# Altium footprint library Supernova Diodes.PcbLib: 50 footprints (part 1 of 4)
Each footprint in its own frame and in the unit in brackets; x right, y up, seen from the top. Pads: shape width x height; smd on the part's side, far side on the other; paste and mask are expansions set on the pad; w line width, h text height; cw(c..) or ccw(c..) is an arc to the next point about the centre after c.
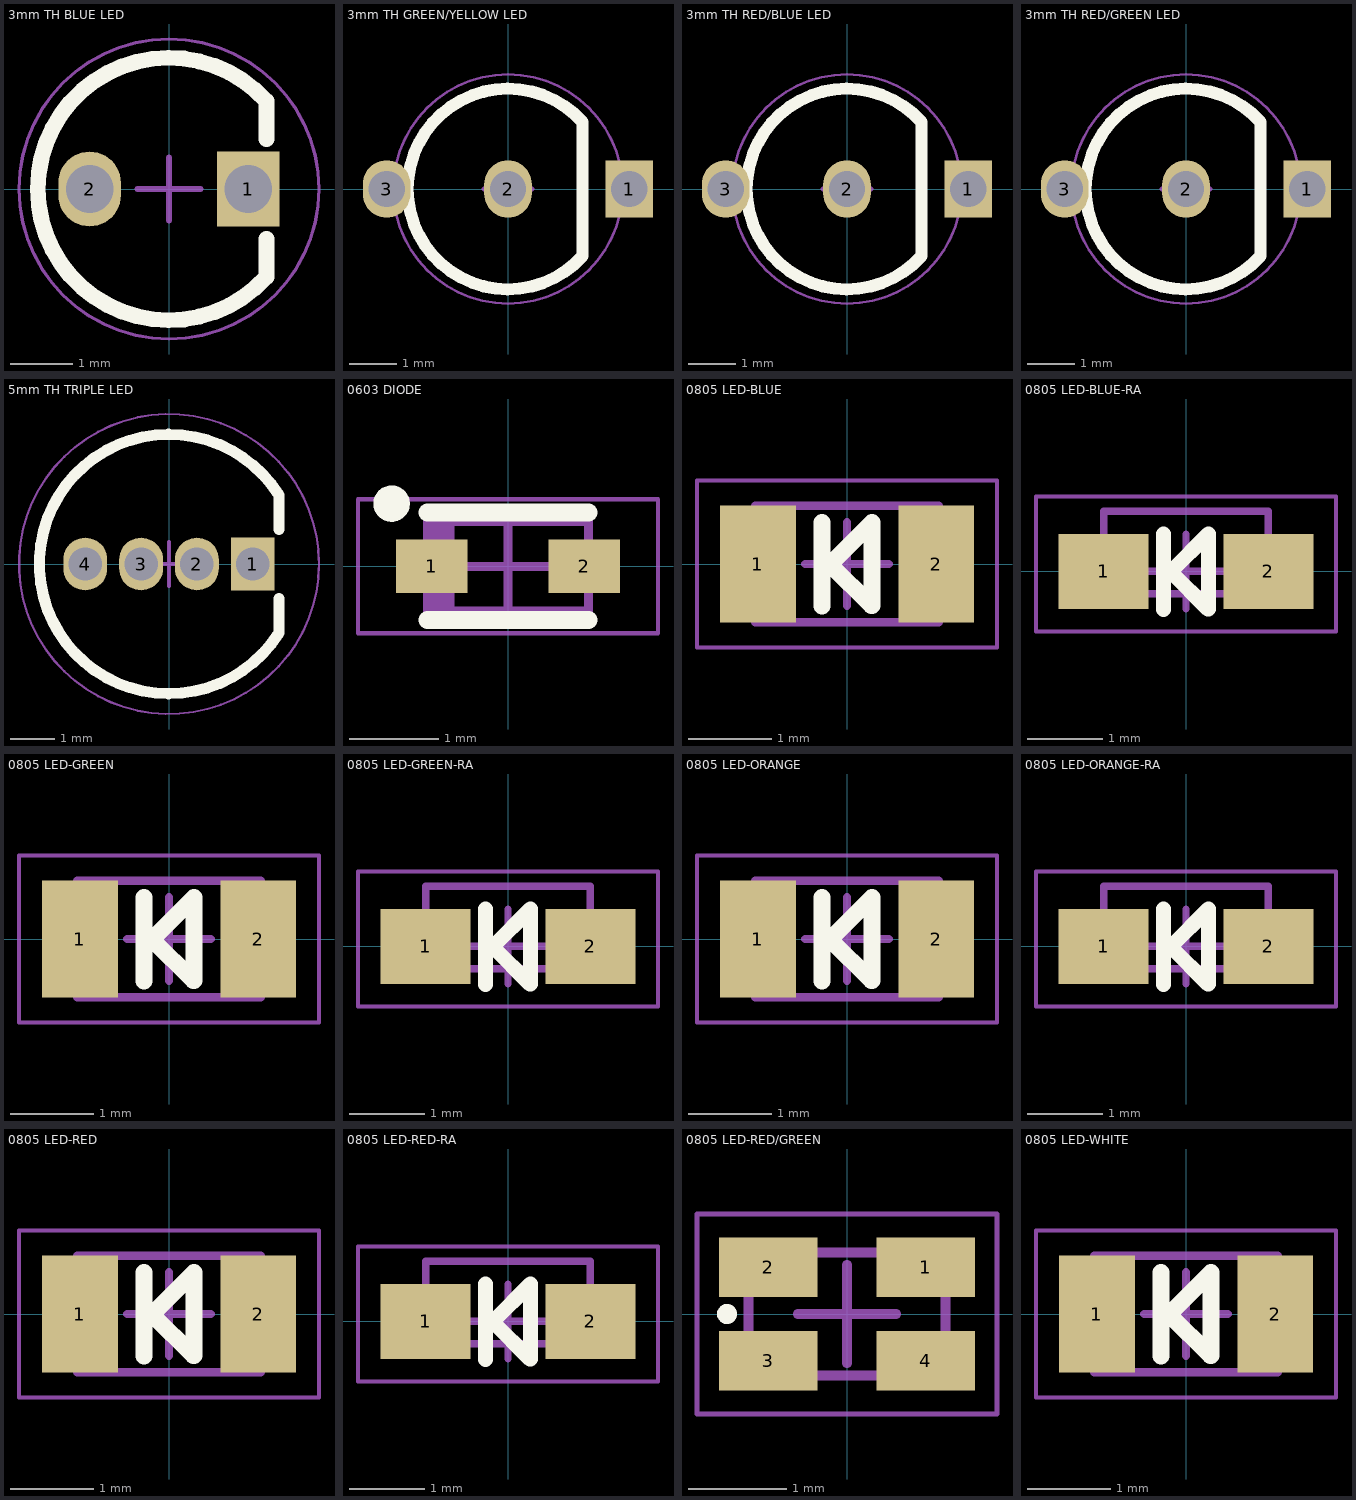
[diagram p0: the footprints below, top view; thin cyan lines are the x and y axes]

## 3mm TH BLUE LED [mm]
pads (2):
  rect 1x1.2 hole 0.762 mask+0.02: 1(1.27,0)
  oval 1x1.2 hole 0.762 mask+0.02: 2(-1.27,0)
Top Overlay:
  lines w0.254: 1.561,-0.8 1.561,-1.405 cw(c0,0) 1.561,1.405 1.561,0.8
Top Courtyard (Mech15):
  circle w0.05: c0,0 r2.4
  lines w0.1: -0.5,0 0.5,0 ; 0,-0.5 0,0.5
3D body: height 3.9, standoff 3.1, extent -0.4,-0.397 0.399,0.397
3D body: height 3, standoff 2, extent -2,-2.006 1.486,2.006
3D body: height 7, standoff 4, extent -1.494,-1.497 1.495,1.497
3D body: height 5.5, standoff 3, extent -1.494,-1.497 1.494,1.497
3D body: height 2, standoff -2.2, extent -1.52,-0.25 -1.02,0.25
3D body: height 2, standoff -2.2, extent 1.02,-0.25 1.52,0.25

## 3mm TH GREEN/YELLOW LED [mm]
pads (3):
  rect 1x1.2 hole 0.762 mask+0.02: 1(2.54,0)
  oval 1x1.2 hole 0.762 mask+0.02: 2(0,0) 3(-2.54,0)
Top Overlay:
  lines w0.254: 1.561,-1.405 cw(c0,0) 1.561,1.405 1.561,-1.405
Top Courtyard (Mech15):
  circle w0.05: c0,0 r2.4
  lines w0.1: -0.5,0 0.5,0 ; 0,-0.5 0,0.5
3D body: height 3, standoff 2, extent -2,-2.006 1.486,2.006
3D body: height 7, standoff 4, extent -1.494,-1.497 1.495,1.497
3D body: height 5.5, standoff 3, extent -1.494,-1.497 1.494,1.497
3D body: height 0.5, standoff -2.2, extent -2.79,-0.25 -2.29,0.25
3D body: height 2, standoff -2.2, extent -0.25,-0.25 0.25,0.25
3D body: height 0.5, standoff -2.2, extent 2.29,-0.25 2.79,0.25
3D body: height 3.9, standoff 3.1, extent -0.849,-0.397 -0.05,0.397
3D body: height 3.9, standoff 3.1, extent 0.05,-0.397 0.849,0.397

## 3mm TH RED/BLUE LED [mm]
pads (3):
  rect 1x1.2 hole 0.762 mask+0.02: 1(2.54,0)
  oval 1x1.2 hole 0.762 mask+0.02: 2(0,0) 3(-2.54,0)
Top Overlay:
  lines w0.254: 1.561,-1.405 cw(c0,0) 1.561,1.405 1.561,-1.405
Top Courtyard (Mech15):
  circle w0.05: c0,0 r2.4
  lines w0.1: -0.5,0 0.5,0 ; 0,-0.5 0,0.5
3D body: height 3.9, standoff 3.1, extent 0.051,-0.397 0.85,0.397
3D body: height 3.9, standoff 3.1, extent -0.85,-0.394 -0.051,0.4
3D body: height 3, standoff 2, extent -2,-2.006 1.486,2.006
3D body: height 7, standoff 4, extent -1.494,-1.497 1.495,1.497
3D body: height 5.5, standoff 3, extent -1.494,-1.497 1.494,1.497
3D body: height 0.5, standoff -2.2, extent -2.79,-0.25 -2.29,0.25
3D body: height 2, standoff -2.2, extent -0.25,-0.25 0.25,0.25
3D body: height 0.5, standoff -2.2, extent 2.29,-0.25 2.79,0.25

## 3mm TH RED/GREEN LED [mm]
pads (3):
  rect 1x1.2 hole 0.762 mask+0.02: 1(2.54,0)
  oval 1x1.2 hole 0.762 mask+0.02: 2(0,0) 3(-2.54,0)
Top Overlay:
  lines w0.254: 1.561,-1.405 cw(c0,0) 1.561,1.405 1.561,-1.405
Top Courtyard (Mech15):
  circle w0.05: c0,0 r2.4
  lines w0.1: -0.5,0 0.5,0 ; 0,-0.5 0,0.5
3D body: height 3.9, standoff 3.1, extent 0.05,-0.397 0.849,0.397
3D body: height 3.9, standoff 3.1, extent -0.849,-0.397 -0.05,0.397
3D body: height 0.5, standoff -2.2, extent 2.29,-0.25 2.79,0.25
3D body: height 2, standoff -2.2, extent -0.25,-0.25 0.25,0.25
3D body: height 0.5, standoff -2.2, extent -2.79,-0.25 -2.29,0.25
3D body: height 5.5, standoff 3, extent -1.494,-1.497 1.494,1.497
3D body: height 7, standoff 4, extent -1.494,-1.497 1.495,1.497
3D body: height 3, standoff 2, extent -2,-2.006 1.486,2.006

## 5mm TH TRIPLE LED [mm]
pads (4):
  rect 1x1.2 hole 0.762 mask+0.02: 1(1.905,0)
  oval 1x1.2 hole 0.762 mask+0.02: 2(0.635,0) 3(-0.635,0) 4(-1.905,0)
Top Overlay:
  lines w0.254: 2.496,-1.572 cw(c0,0) 2.496,1.572 2.5,1.572 2.5,0.786 ; 2.5,-1.572 2.5,-0.786
Top Courtyard (Mech15):
  circle w0.05: c0,0 r3.412
  lines w0.1: -0.5,0 0.5,0 ; 0,-0.5 0,0.5
3D body: height 4.1, standoff 2.9, extent 0.156,-0.597 1.35,0.597
3D body "5mm LED.STEP": height 10.4, standoff 1.8, extent -2.95,-2.95 2.5,2.95
3D body: height 2.79, standoff -4.11, extent -2.155,-0.25 -1.655,0.25
3D body: height 2.79, standoff -4.11, extent -0.885,-0.25 -0.385,0.25
3D body: height 2.79, standoff -4.11, extent 0.385,-0.25 0.885,0.25
3D body: height 2.79, standoff -4.11, extent 1.655,-0.25 2.155,0.25
3D body: height 4.1, standoff 2.9, extent -1.045,0.006 0.149,1.2
3D body: height 4.1, standoff 2.9, extent -1.049,-1.201 0.145,-0.006

## 0603 DIODE [mm] "Molded Diode, 2-Leads, Body 1.70x0.90mm, IPC Medium Density"
height 0.85
pads (2):
  rect 0.8x0.6 smd: 1(-0.85,0) 2(0.85,0)
Top Overlay:
  circle w0.203: c-1.3,0.7 r0.102
  lines w0.2: -0.9,-0.6 0.9,-0.6 ; -0.9,0.6 0.9,0.6
Top 3D Body (Mech13):
  rectangle: -0.9,-0.5 -0.6,0.5
  lines w0.1: -0.9,-0.5 0.9,-0.5 0.9,0.5 -0.9,0.5 -0.9,-0.5
Top Courtyard (Mech15):
  lines w0.05: -1.675,-0.75 1.675,-0.75 1.675,0.75 -1.675,0.75 -1.675,-0.75
  lines w0.1: -0.5,0 0.5,0 ; 0,-0.5 0,0.5
3D body: height 0.75, standoff 0, extent -0.9,-0.5 -0.6,0.5
3D body: height 0.85, standoff 0.75, extent -0.9,-0.5 -0.6,0.5
3D body: height 0.85, standoff 0, extent -0.6,-0.5 0.9,0.5

## 0805 LED-BLUE [mm] "Chip LED, 2-Leads, Body 2.05x1.25mm, IPC Medium Density"
height 0.8
pads (2):
  rect 0.91x1.41 smd: 1(-1.07,0) 2(1.07,0)
Top Overlay:
  lines w0.2: -0.3,-0.508 -0.3,0.5 ; 0.292,-0.5 -0.204,-0.004 0.3,0.5 0.3,-0.5
Top 3D Body (Mech13):
  lines w0.1: -1.1,-0.7 1.1,-0.7 1.1,0.7 -1.1,0.7 -1.1,-0.7
Top Courtyard (Mech15):
  lines w0.05: -1.8,-1 1.8,-1 1.8,1 -1.8,1 -1.8,-1
  lines w0.1: -0.5,0 0.5,0 ; 0,-0.5 0,0.5
3D body: height 0.8, standoff 0, extent -0.396,-0.398 0.4,0.398
3D body: height 0.3, standoff 0, extent 0.75,-0.7 1.1,0.7
3D body: height 0.3, standoff 0, extent -1.1,-0.7 -0.75,0.7
3D body: height 0.8, standoff 0.3, extent -0.75,-0.7 0.75,0.7
3D body: height 0.3, standoff 0, extent -0.75,-0.7 0.75,0.7

## 0805 LED-BLUE-RA [mm] "Chip LED, 2-Leads, Body 2.05x1.25mm, IPC Medium Density"
height 0.8
pads (2):
  rect 1.2x1 smd: 1(-1.1,0) 2(1.1,0)
Top Overlay:
  lines w0.2: -0.3,-0.508 -0.3,0.5 ; 0.292,-0.5 -0.204,-0.004 0.3,0.5 0.3,-0.5
Top 3D Body (Mech13):
  lines w0.1: -1.1,-0.3 1.1,-0.3 1.1,0.8 -1.1,0.8 -1.1,-0.3
Top Courtyard (Mech15):
  lines w0.05: -2,-0.8 2,-0.8 2,1 -2,1 -2,-0.8
  lines w0.1: -0.5,0 0.5,0 ; 0,-0.5 0,0.5
3D body: height 0.6, standoff 0, extent 0.75,-0.25 1.1,0.25
3D body: height 0.6, standoff 0, extent -1.1,-0.25 -0.75,0.25
3D body: height 0.6, standoff 0, extent -0.75,-0.25 0.75,0.25
3D body: height 0.55, standoff 0.05, extent -0.25,0.004 0.25,0.496
3D body: height 0.6, standoff 0, extent -0.75,0.25 0.75,0.75

## 0805 LED-GREEN [mm] "Chip LED, 2-Leads, Body 2.05x1.25mm, IPC Medium Density"
height 0.8
pads (2):
  rect 0.91x1.41 smd: 1(-1.07,0) 2(1.07,0)
Top Overlay:
  lines w0.2: -0.3,-0.508 -0.3,0.5 ; 0.292,-0.5 -0.204,-0.004 0.3,0.5 0.3,-0.5
Top 3D Body (Mech13):
  lines w0.1: -1.1,-0.7 -1.1,0.7 1.1,0.7 1.1,-0.7 -1.1,-0.7
Top Courtyard (Mech15):
  lines w0.05: -1.8,-1 -1.8,1 1.8,1 1.8,-1 -1.8,-1
  lines w0.1: -0.5,0 0.5,0 ; 0,-0.5 0,0.5
3D body: height 0.8, standoff 0, extent -0.396,-0.398 0.4,0.398
3D body: height 0.3, standoff 0, extent -0.75,-0.7 0.75,0.7
3D body: height 0.8, standoff 0.3, extent -0.75,-0.7 0.75,0.7
3D body: height 0.3, standoff 0, extent -1.1,-0.7 -0.75,0.7
3D body: height 0.3, standoff 0, extent 0.75,-0.7 1.1,0.7

## 0805 LED-GREEN-RA [mm] "Chip LED, 2-Leads, Body 2.05x1.25mm, IPC Medium Density"
height 0.8
pads (2):
  rect 1.2x1 smd: 1(-1.1,0) 2(1.1,0)
Top Overlay:
  lines w0.2: -0.3,-0.508 -0.3,0.5 ; 0.292,-0.5 -0.204,-0.004 0.3,0.5 0.3,-0.5
Top 3D Body (Mech13):
  lines w0.1: -1.1,-0.3 1.1,-0.3 1.1,0.8 -1.1,0.8 -1.1,-0.3
Top Courtyard (Mech15):
  lines w0.05: -2,-0.8 2,-0.8 2,1 -2,1 -2,-0.8
  lines w0.1: -0.5,0 0.5,0 ; 0,-0.5 0,0.5
3D body: height 0.6, standoff 0, extent 0.75,-0.25 1.1,0.25
3D body: height 0.6, standoff 0, extent -1.1,-0.25 -0.75,0.25
3D body: height 0.6, standoff 0, extent -0.75,-0.25 0.75,0.25
3D body: height 0.55, standoff 0.05, extent -0.25,0.004 0.25,0.496
3D body: height 0.6, standoff 0, extent -0.75,0.25 0.75,0.75

## 0805 LED-ORANGE [mm] "Chip LED, 2-Leads, Body 2.05x1.25mm, IPC Medium Density"
height 0.8
pads (2):
  rect 0.91x1.41 smd: 1(-1.07,0) 2(1.07,0)
Top Overlay:
  lines w0.2: -0.3,-0.508 -0.3,0.5 ; 0.292,-0.5 -0.204,-0.004 0.3,0.5 0.3,-0.5
Top 3D Body (Mech13):
  lines w0.1: -1.1,-0.7 1.1,-0.7 1.1,0.7 -1.1,0.7 -1.1,-0.7
Top Courtyard (Mech15):
  lines w0.05: -1.8,-1 1.8,-1 1.8,1 -1.8,1 -1.8,-1
  lines w0.1: -0.5,0 0.5,0 ; 0,-0.5 0,0.5
3D body: height 0.3, standoff 0, extent 0.75,-0.7 1.1,0.7
3D body: height 0.3, standoff 0, extent -1.1,-0.7 -0.75,0.7
3D body: height 0.8, standoff 0.3, extent -0.75,-0.7 0.75,0.7
3D body: height 0.3, standoff 0, extent -0.75,-0.7 0.75,0.7
3D body: height 0.8, standoff 0, extent -0.396,-0.398 0.4,0.398

## 0805 LED-ORANGE-RA [mm] "Chip LED, 2-Leads, Body 2.05x1.25mm, IPC Medium Density"
height 0.8
pads (2):
  rect 1.2x1 smd: 1(-1.1,0) 2(1.1,0)
Top Overlay:
  lines w0.2: -0.3,-0.508 -0.3,0.5 ; 0.292,-0.5 -0.204,-0.004 0.3,0.5 0.3,-0.5
Top 3D Body (Mech13):
  lines w0.1: -1.1,-0.3 -1.1,0.8 1.1,0.8 1.1,-0.3 -1.1,-0.3
Top Courtyard (Mech15):
  lines w0.05: -2,-0.8 -2,1 2,1 2,-0.8 -2,-0.8
  lines w0.1: -0.5,0 0.5,0 ; 0,-0.5 0,0.5
3D body: height 0.6, standoff 0, extent -0.75,0.25 0.75,0.75
3D body: height 0.55, standoff 0.05, extent -0.25,0.004 0.25,0.496
3D body: height 0.6, standoff 0, extent -0.75,-0.25 0.75,0.25
3D body: height 0.6, standoff 0, extent -1.1,-0.25 -0.75,0.25
3D body: height 0.6, standoff 0, extent 0.75,-0.25 1.1,0.25

## 0805 LED-RED [mm] "Chip LED, 2-Leads, Body 2.05x1.25mm, IPC Medium Density"
height 0.8
pads (2):
  rect 0.91x1.41 smd: 1(-1.07,0) 2(1.07,0)
Top Overlay:
  lines w0.2: -0.3,-0.508 -0.3,0.5 ; 0.292,-0.5 -0.204,-0.004 0.3,0.5 0.3,-0.5
Top 3D Body (Mech13):
  lines w0.1: -1.1,-0.7 -1.1,0.7 1.1,0.7 1.1,-0.7 -1.1,-0.7
Top Courtyard (Mech15):
  lines w0.05: -1.8,-1 -1.8,1 1.8,1 1.8,-1 -1.8,-1
  lines w0.1: -0.5,0 0.5,0 ; 0,-0.5 0,0.5
3D body: height 0.8, standoff 0, extent -0.396,-0.398 0.4,0.398
3D body: height 0.3, standoff 0, extent -0.75,-0.7 0.75,0.7
3D body: height 0.8, standoff 0.3, extent -0.75,-0.7 0.75,0.7
3D body: height 0.3, standoff 0, extent -1.1,-0.7 -0.75,0.7
3D body: height 0.3, standoff 0, extent 0.75,-0.7 1.1,0.7

## 0805 LED-RED-RA [mm] "Chip LED, 2-Leads, Body 2.05x1.25mm, IPC Medium Density"
height 0.8
pads (2):
  rect 1.2x1 smd: 1(-1.1,0) 2(1.1,0)
Top Overlay:
  lines w0.2: -0.3,-0.508 -0.3,0.5 ; 0.292,-0.5 -0.204,-0.004 0.3,0.5 0.3,-0.5
Top 3D Body (Mech13):
  lines w0.1: -1.1,-0.3 1.1,-0.3 1.1,0.8 -1.1,0.8 -1.1,-0.3
Top Courtyard (Mech15):
  lines w0.05: -2,-0.8 2,-0.8 2,1 -2,1 -2,-0.8
  lines w0.1: -0.5,0 0.5,0 ; 0,-0.5 0,0.5
3D body: height 0.6, standoff 0, extent 0.75,-0.25 1.1,0.25
3D body: height 0.6, standoff 0, extent -1.1,-0.25 -0.75,0.25
3D body: height 0.6, standoff 0, extent -0.75,-0.25 0.75,0.25
3D body: height 0.55, standoff 0.05, extent -0.25,0.004 0.25,0.496
3D body: height 0.6, standoff 0, extent -0.75,0.25 0.75,0.75

## 0805 LED-RED/GREEN [mm]
pads (4):
  rect 1x0.6 smd mask+0.051: 1(0.8,0.475) 2(-0.8,0.475) 3(-0.8,-0.475) 4(0.8,-0.475)
Top Overlay:
  circle w0.102: c-1.219,0 r0.051
Top 3D Body (Mech13):
  lines w0.1: -1,-0.625 -1,0.625 1,0.625 1,-0.625 -1,-0.625
Top Courtyard (Mech15):
  lines w0.05: -1.524,-1.016 1.524,-1.016 1.524,1.016 -1.524,1.016 -1.524,-1.016
  lines w0.1: -0.5,0 0.5,0 ; 0,-0.5 0,0.5
3D body: height 0.15, standoff 0, extent -0.625,-0.625 0.625,0.625
3D body: height 0.4, standoff 0, extent -0.2,0.131 0.199,0.525
3D body: height 0.4, standoff 0.15, extent -0.625,-0.625 0.625,0.625
3D body: height 0.15, standoff 0, extent -1,-0.625 -0.625,0.625
3D body: height 0.15, standoff 0, extent 0.625,-0.625 1,0.625
3D body: height 0.4, standoff 0, extent -0.199,-0.525 0.2,-0.131

## 0805 LED-WHITE [mm] "Chip LED, 2-Leads, Body 2.05x1.25mm, IPC Medium Density"
height 0.8
pads (2):
  rect 0.91x1.41 smd: 1(-1.07,0) 2(1.07,0)
Top Overlay:
  lines w0.2: -0.3,-0.508 -0.3,0.5 ; 0.292,-0.5 -0.204,-0.004 0.3,0.5 0.3,-0.5
Top 3D Body (Mech13):
  lines w0.1: -1.1,-0.7 -1.1,0.7 1.1,0.7 1.1,-0.7 -1.1,-0.7
Top Courtyard (Mech15):
  lines w0.05: -1.8,-1 -1.8,1 1.8,1 1.8,-1 -1.8,-1
  lines w0.1: -0.5,0 0.5,0 ; 0,-0.5 0,0.5
3D body: height 0.8, standoff 0, extent -0.4,-0.4 0.4,0.4
3D body: height 0.3, standoff 0, extent -0.75,-0.7 0.75,0.7
3D body: height 0.8, standoff 0.3, extent -0.75,-0.7 0.75,0.7
3D body: height 0.3, standoff 0, extent -1.1,-0.7 -0.75,0.7
3D body: height 0.3, standoff 0, extent 0.75,-0.7 1.1,0.7